# EAGLE library part TJA1050 (library SchlegelAr_Master)
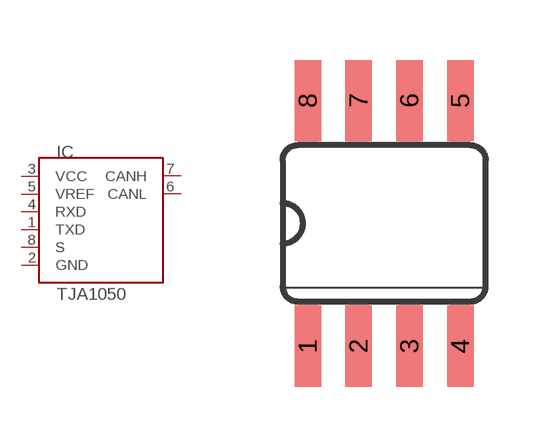
[diagram p16: symbol with the pads of SO8; footprint SO8]

Designator prefix IC

## TJA1050  [SO8]
1  TXD
2  GND
3  VCC
4  RXD
5  VREF
6  CANL
7  CANH
8  S

## Footprint SO8 (pad centres in mm)
smd 0.66 x 2.032: 1 -1.905,-3.073; 2 -0.635,-3.073; 3 0.635,-3.073; 4 1.905,-3.073; 5 1.905,3.073; 6 0.635,3.073; 7 -0.635,3.073; 8 -1.905,3.073